# Altium footprint library RCU.PcbLib: 91 footprints (part 2 of 6)
Each footprint in its own frame and in the unit in brackets; x right, y up, seen from the top. Pads: shape width x height; smd on the part's side, far side on the other; paste and mask are expansions set on the pad; w line width, h text height; cw(c..) or ccw(c..) is an arc to the next point about the centre after c.
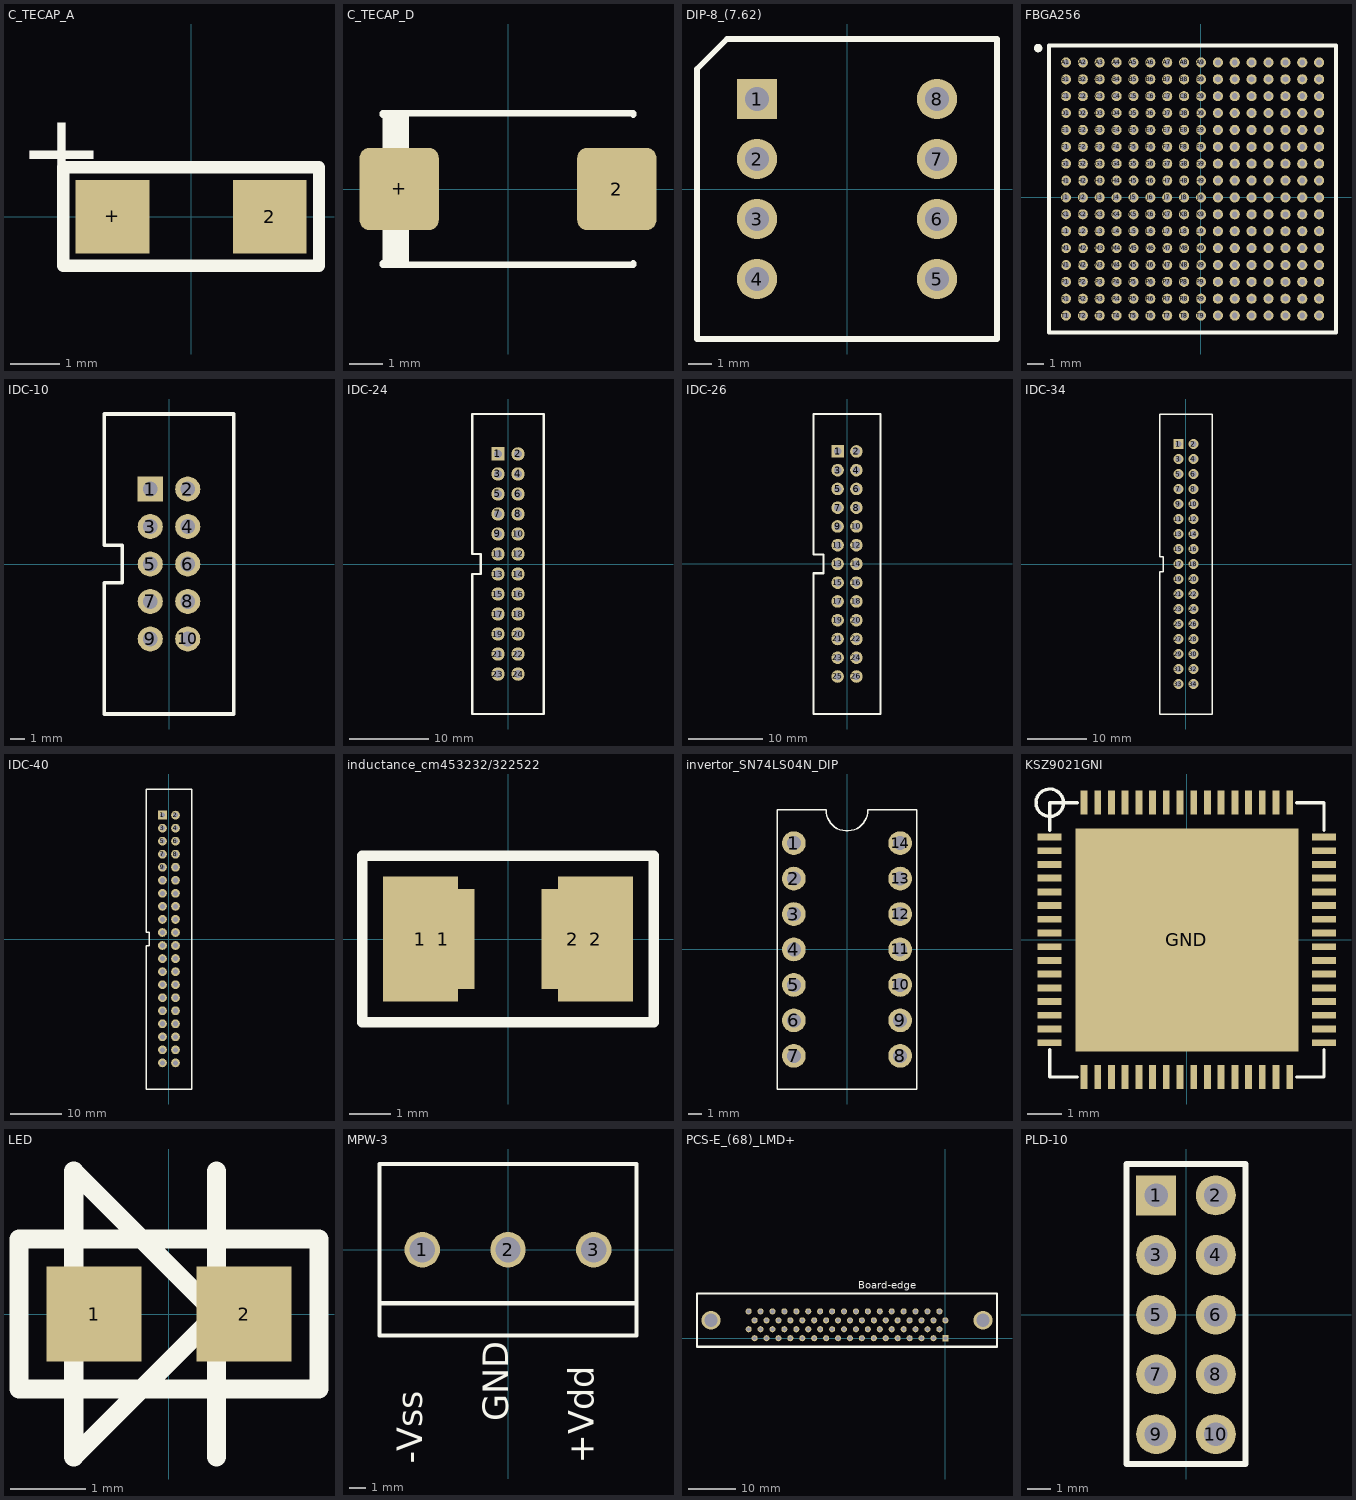
[diagram p1: the footprints below, top view; thin cyan lines are the x and y axes]

## C_TECAP_A [mm]
pads (2):
  rect 1.5x1.5 smd: 2(1.6,0) +(-1.6,0)
Top Overlay:
  lines w0.254: -2.6,-1 -2.6,1 2.6,1 2.6,-1 -2.6,-1
  text "+" at -3.5,0.6 h1.52

## C_TECAP_D [mm] "Capacitor, SM Tantalum; Body 7.3 x 4.3 mm (LxW typ)"
height 3.1
pads (2):
  rrect25% 2.4x2.5 smd: 2(3.3,0) +(-3.3,0)
Top Overlay:
  rectangle: -3.8,-2.3 -3,2.25
  lines w0.2: -3.8,-2.25 -3.8,-2.3 3.8,-2.3 3.8,-2.25 ; -3.8,2.25 -3.8,2.3 3.8,2.3 3.8,2.25
3D body "EL Case D (7343-31).STEP": height 2.81, standoff 0, extent -3.647,-2.15 3.647,2.15

## DIP-8_(7.62) [mm]
pads (8):
  rect 1.7x1.7 hole 1: 1(-3.81,3.81)
  round 1.7 hole 1: 2(-3.81,1.27) 3(-3.81,-1.27) 4(-3.81,-3.81) 5(3.81,-3.81) 6(3.81,-1.27) 7(3.81,1.27) 8(3.81,3.81)
Top Overlay:
  lines w0.254: -6.35,-6.35 -6.35,5.08 -5.08,6.35 6.35,6.35 6.35,-6.35 -6.35,-6.35

## FBGA256 [mm]
pads (256):
  round 0.6 hole 0.35: A1(-8,8) A2(-7,8) A3(-6,8) A4(-5,8) A5(-4,8) A6(-3,8) A7(-2,8) A8(-1,8) A9(0,8) A10(1,8) A11(2,8) A12(3,8) A13(4,8) A14(5,8) A15(6,8) A16(7,8) B1(-8,7) B2(-7,7) B3(-6,7) B4(-5,7) B5(-4,7) B6(-3,7) B7(-2,7) B8(-1,7) B9(0,7) B10(1,7) B11(2,7) B12(3,7) B13(4,7) B14(5,7) B15(6,7) B16(7,7) C1(-8,6) C2(-7,6) C3(-6,6) C4(-5,6) C5(-4,6) C6(-3,6) C7(-2,6) C8(-1,6) C9(0,6) C10(1,6) C11(2,6) C12(3,6) C13(4,6) C14(5,6) C15(6,6) C16(7,6) D1(-8,5) D2(-7,5) D3(-6,5) D4(-5,5) D5(-4,5) D6(-3,5) D7(-2,5) D8(-1,5) D9(0,5) D10(1,5) D11(2,5) D12(3,5) D13(4,5) D14(5,5) D15(6,5) D16(7,5) E1(-8,4) E2(-7,4) E3(-6,4) E4(-5,4) E5(-4,4) E6(-3,4) E7(-2,4) E8(-1,4) E9(0,4) E10(1,4) E11(2,4) E12(3,4) E13(4,4) E14(5,4) E15(6,4) E16(7,4) F1(-8,3) F2(-7,3) F3(-6,3) F4(-5,3) F5(-4,3) F6(-3,3) F7(-2,3) F8(-1,3) F9(0,3) F10(1,3) F11(2,3) F12(3,3) F13(4,3) F14(5,3) F15(6,3) F16(7,3) G1(-8,2) G2(-7,2) G3(-6,2) G4(-5,2) G5(-4,2) G6(-3,2) G7(-2,2) G8(-1,2) G9(0,2) G10(1,2) G11(2,2) G12(3,2) G13(4,2) G14(5,2) G15(6,2) G16(7,2) H1(-8,1) H2(-7,1) H3(-6,1) H4(-5,1) H5(-4,1) H6(-3,1) H7(-2,1) H8(-1,1) H9(0,1) H10(1,1) H11(2,1) H12(3,1) H13(4,1) H14(5,1) H15(6,1) H16(7,1) J1(-8,0) J2(-7,0) J3(-6,0) J4(-5,0) J5(-4,0) J6(-3,0) J7(-2,0) J8(-1,0) J9(0,0) J10(1,0) J11(2,0) J12(3,0) J13(4,0) J14(5,0) J15(6,0) J16(7,0) K1(-8,-1) K2(-7,-1) K3(-6,-1) K4(-5,-1) K5(-4,-1) K6(-3,-1) K7(-2,-1) K8(-1,-1) K9(0,-1) K10(1,-1) K11(2,-1) K12(3,-1) K13(4,-1) K14(5,-1) K15(6,-1) K16(7,-1) L1(-8,-2) L2(-7,-2) L3(-6,-2) L4(-5,-2) L5(-4,-2) L6(-3,-2) L7(-2,-2) L8(-1,-2) L9(0,-2) L10(1,-2) L11(2,-2) L12(3,-2) L13(4,-2) L14(5,-2) L15(6,-2) L16(7,-2) M1(-8,-3) M2(-7,-3) M3(-6,-3) M4(-5,-3) M5(-4,-3) M6(-3,-3) M7(-2,-3) M8(-1,-3) M9(0,-3) M10(1,-3) M11(2,-3) M12(3,-3) M13(4,-3) M14(5,-3) M15(6,-3) M16(7,-3) N1(-8,-4) N2(-7,-4) N3(-6,-4) N4(-5,-4) N5(-4,-4) N6(-3,-4) N7(-2,-4) N8(-1,-4) N9(0,-4) N10(1,-4) N11(2,-4) N12(3,-4) N13(4,-4) N14(5,-4) N15(6,-4) N16(7,-4) P1(-8,-5) P2(-7,-5) P3(-6,-5) P4(-5,-5) P5(-4,-5) P6(-3,-5) P7(-2,-5) P8(-1,-5) P9(0,-5) P10(1,-5) P11(2,-5) P12(3,-5) P13(4,-5) P14(5,-5) P15(6,-5) P16(7,-5) R1(-8,-6) R2(-7,-6) R3(-6,-6) R4(-5,-6) R5(-4,-6) R6(-3,-6) R7(-2,-6) R8(-1,-6) R9(0,-6) R10(1,-6) R11(2,-6) R12(3,-6) R13(4,-6) R14(5,-6) R15(6,-6) R16(7,-6) T1(-8,-7) T2(-7,-7) T3(-6,-7) T4(-5,-7) T5(-4,-7) T6(-3,-7) T7(-2,-7) T8(-1,-7) T9(0,-7) T10(1,-7) T11(2,-7) T12(3,-7) T13(4,-7) T14(5,-7) T15(6,-7) T16(7,-7)
Top Overlay:
  circle w0.25: c-9.65,8.85 r0.125
  lines w0.254: -9,-8 8,-8 8,9 -9,9 -9,-8
3D body: height 1.55, standoff 0, extent -9,-8 8,9

## IDC-10 [mm]
pads (10):
  rect 1.7x1.7 hole 1: 1(-1.27,5.08)
  round 1.7 hole 1: 2(1.27,5.08) 3(-1.27,2.54) 4(1.27,2.54) 5(-1.27,0) 6(1.27,0) 7(-1.27,-2.54) 8(1.27,-2.54) 9(-1.27,-5.08) 10(1.27,-5.08)
Top Overlay:
  lines w0.254: -4.4,-10.175 -4.4,-1.27 -3.175,-1.27 -3.175,1.27 -4.4,1.27 -4.4,10.175 4.4,10.175 4.4,-10.175 -4.4,-10.175

## IDC-24 [mm]
pads (24):
  rect 1.7x1.7 hole 1: 1(-1.27,13.97)
  round 1.7 hole 1: 2(1.27,13.97) 3(-1.27,11.43) 4(1.27,11.43) 5(-1.27,8.89) 6(1.27,8.89) 7(-1.27,6.35) 8(1.27,6.35) 9(-1.27,3.81) 10(1.27,3.81) 11(-1.27,1.27) 12(1.27,1.27) 13(-1.27,-1.27) 14(1.27,-1.27) 15(-1.27,-3.81) 16(1.27,-3.81) 17(-1.27,-6.35) 18(1.27,-6.35) 19(-1.27,-8.89) 20(1.27,-8.89) 21(-1.27,-11.43) 22(1.27,-11.43) 23(-1.27,-13.97) 24(1.27,-13.97)
Top Overlay:
  lines w0.3: -4.55,-19.04 -4.55,-1.27 -3.48,-1.27 -3.48,1.27 -4.55,1.27 -4.55,19.04 4.55,19.04 4.55,-19.04 -4.55,-19.04

## IDC-26 [mm]
pads (26):
  rect 1.7x1.7 hole 1: 1(-1.27,15.24)
  round 1.7 hole 1: 2(1.27,15.24) 3(-1.27,12.7) 4(1.27,12.7) 5(-1.27,10.16) 6(1.27,10.16) 7(-1.27,7.62) 8(1.27,7.62) 9(-1.27,5.08) 10(1.27,5.08) 11(-1.27,2.54) 12(1.27,2.54) 13(-1.27,0) 14(1.27,0) 15(-1.27,-2.54) 16(1.27,-2.54) 17(-1.27,-5.08) 18(1.27,-5.08) 19(-1.27,-7.62) 20(1.27,-7.62) 21(-1.27,-10.16) 22(1.27,-10.16) 23(-1.27,-12.7) 24(1.27,-12.7) 25(-1.27,-15.24) 26(1.27,-15.24)
Top Overlay:
  lines w0.3: -4.55,-20.32 4.55,-20.32 4.55,20.31 -4.55,20.31 -4.55,1.27 -3.175,1.27 -3.175,-1.27 -4.55,-1.27 -4.55,-20.32

## IDC-34 [mm]
pads (34):
  rect 1.7x1.7 hole 1: 1(-1.27,20.32)
  round 1.7 hole 1: 2(1.27,20.32) 3(-1.27,17.78) 4(1.27,17.78) 5(-1.27,15.24) 6(1.27,15.24) 7(-1.27,12.7) 8(1.27,12.7) 9(-1.27,10.16) 10(1.27,10.16) 11(-1.27,7.62) 12(1.27,7.62) 13(-1.27,5.08) 14(1.27,5.08) 15(-1.27,2.54) 16(1.27,2.54) 17(-1.27,0) 18(1.27,0) 19(-1.27,-2.54) 20(1.27,-2.54) 21(-1.27,-5.08) 22(1.27,-5.08) 23(-1.27,-7.62) 24(1.27,-7.62) 25(-1.27,-10.16) 26(1.27,-10.16) 27(-1.27,-12.7) 28(1.27,-12.7) 29(-1.27,-15.24) 30(1.27,-15.24) 31(-1.27,-17.78) 32(1.27,-17.78) 33(-1.27,-20.32) 34(1.27,-20.32)
Top Overlay:
  lines w0.254: 4.445,-25.4 -4.445,-25.4 -4.445,-1.27 -3.81,-1.27 -3.81,1.27 -4.47,1.27 -4.47,15.24 -4.47,25.4 4.48,25.4 4.48,-25.4

## IDC-40 [mm]
pads (40):
  rect 1.7x1.7 hole 1: 1(-1.27,24.13)
  round 1.7 hole 1: 2(1.27,24.13) 3(-1.27,21.59) 4(1.27,21.59) 5(-1.27,19.05) 6(1.27,19.05) 7(-1.27,16.51) 8(1.27,16.51) 9(-1.27,13.97) 10(1.27,13.97) 11(-1.27,11.43) 12(1.27,11.43) 13(-1.27,8.89) 14(1.27,8.89) 15(-1.27,6.35) 16(1.27,6.35) 17(-1.27,3.81) 18(1.27,3.81) 19(-1.27,1.27) 20(1.27,1.27) 21(-1.27,-1.27) 22(1.27,-1.27) 23(-1.27,-3.81) 24(1.27,-3.81) 25(-1.27,-6.35) 26(1.27,-6.35) 27(-1.27,-8.89) 28(1.27,-8.89) 29(-1.27,-11.43) 30(1.27,-11.43) 31(-1.27,-13.97) 32(1.27,-13.97) 33(-1.27,-16.51) 34(1.27,-16.51) 35(-1.27,-19.05) 36(1.27,-19.05) 37(-1.27,-21.59) 38(1.27,-21.59) 39(-1.27,-24.13) 40(1.27,-24.13)
Top Overlay:
  lines w0.254: -4.47,1.27 -4.47,19.05 -4.47,29.21 4.48,29.21 4.48,-29.21 -4.445,-29.21 -4.445,-1.27 -3.81,-1.27 -3.81,1.27 -4.47,1.27

## inductance_cm453232/322522 [mm]
pads (4):
  rect 1.8x3 smd: 1(-2.1,0) 2(2.1,0)
  rect 1.5x2.4 smd: 1(-1.55,0) 2(1.55,0)
Top Overlay:
  lines w0.254: -3.5,-2 -3.5,2 3.5,2 3.5,-2 -3.5,-2

## invertor_SN74LS04N_DIP [mm]
pads (14):
  round 1.7 hole 1: 1(-3.81,7.62) 2(-3.81,5.08) 3(-3.81,2.54) 4(-3.81,0) 5(-3.81,-2.54) 6(-3.81,-5.08) 7(-3.81,-7.62) 8(3.81,-7.62) 9(3.81,-5.08) 10(3.81,-2.54) 11(3.81,0) 12(3.81,2.54) 13(3.81,5.08) 14(3.81,7.62)
Top Overlay:
  lines w0.1: -5,-10 5,-10 5,10 1.5,10 cw(c0,10) -1.5,10 -5,10 -5,-10

## KSZ9021GNI [mm]
pads (65):
  rect 0.7x0.2 smd: 1(-4,3) 2(-4,2.6) 3(-4,2.2) 4(-4,1.8) 5(-4,1.4) 6(-4,1) 7(-4,0.6) 8(-4,0.2) 9(-4,-0.2) 10(-4,-0.6) 11(-4,-1) 12(-4,-1.4) 13(-4,-1.8) 14(-4,-2.2) 15(-4,-2.6) 16(-4,-3) 33(4,-3) 34(4,-2.6) 35(4,-2.2) 36(4,-1.8) 37(4,-1.4) 38(4,-1) 39(4,-0.6) 40(4,-0.2) 41(4,0.2) 42(4,0.6) 43(4,1) 44(4,1.4) 45(4,1.8) 46(4,2.2) 47(4,2.6) 48(4,3)
  rect 0.2x0.7 smd: 17(-3,-4) 18(-2.6,-4) 19(-2.2,-4) 20(-1.8,-4) 21(-1.4,-4) 22(-1,-4) 23(-0.6,-4) 24(-0.2,-4) 25(0.2,-4) 26(0.6,-4) 27(1,-4) 28(1.4,-4) 29(1.8,-4) 30(2.2,-4) 31(2.6,-4) 32(3,-4) 49(3,4) 50(2.6,4) 51(2.2,4) 52(1.8,4) 53(1.4,4) 54(1,4) 55(0.6,4) 56(0.2,4) 57(-0.2,4) 58(-0.6,4) 59(-1,4) 60(-1.4,4) 61(-1.8,4) 62(-2.2,4) 63(-2.6,4) 64(-3,4)
  rect 6.5x6.5 smd: GND(0,0)
Top Overlay:
  circle w0.1: c-4,4 r0.4
  lines w0.1: -4,-3.2 -4,-4 -3.2,-4 ; -4,3.2 -4,4 -3.2,4 ; 3.2,-4 4,-4 4,-3.2 ; 3.2,4 4,4 4,3.2

## LED [mm]
pads (2):
  rect 1.27x1.27 smd: 1(-1,0) 2(1,0)
Top Overlay:
  lines w0.254: 0.635,-1.905 0.635,1.905 ; -2,-1 -2,1 2,1 2,-1 -2,-1 ; -1.27,-1.905 0.635,0 -1.27,1.905 -1.27,-1.905

## MPW-3 [mm]
pads (3):
  round 2.1 hole 1.5: 1(-5.08,0) 2(0,0) 3(5.08,0)
Top Overlay:
  lines w0.254: -7.62,-3.175 7.62,-3.175 ; -7.62,-5.08 7.62,-5.08 7.62,5.08 -7.62,5.08 -7.62,-5.08
  text "+Vdd" at 5.08,-12.7 h1.52
  text "GND" at 0,-10.16 h1.52
  text "-Vss" at -5.08,-12.7 h1.52

## PCS-E_(68)_LMD+ [mm]
pads (68):
  rect 1.3x1.3 hole 0.8: 1(0,0)
  round 1.3 hole 0.8: 2(-1.27,1.905) 3(-2.54,0) 4(-3.81,1.905) 5(-5.08,0) 6(-6.35,1.905) 7(-7.62,0) 8(-8.89,1.905) 9(-10.16,0) 10(-11.43,1.905) 11(-12.7,0) 12(-13.97,1.905) 13(-15.24,0) 14(-16.51,1.905) 15(-17.78,0) 16(-19.05,1.905) 17(-20.32,0) 18(-21.59,1.905) 19(-22.86,0) 20(-24.13,1.905) 21(-25.4,0) 22(-26.67,1.905) 23(-27.94,0) 24(-29.21,1.905) 25(-30.48,0) 26(-31.75,1.905) 27(-33.02,0) 28(-34.29,1.905) 29(-35.56,0) 30(-36.83,1.905) 31(-38.1,0) 32(-39.37,1.905) 33(-40.64,0) 34(-41.91,1.905) 35(0,3.81) 36(-1.27,5.715) 37(-2.54,3.81) 38(-3.81,5.715) 39(-5.08,3.81) 40(-6.35,5.715) 41(-7.62,3.81) 42(-8.89,5.715) 43(-10.16,3.81) 44(-11.43,5.715) 45(-12.7,3.81) 46(-13.97,5.715) 47(-15.24,3.81) 48(-16.51,5.715) 49(-17.78,3.81) 50(-19.05,5.715) 51(-20.32,3.81) 52(-21.59,5.715) 53(-22.86,3.81) 54(-24.13,5.715) 55(-25.4,3.81) 56(-26.67,5.715) 57(-27.94,3.81) 58(-29.21,5.715) 59(-30.48,3.81) 60(-31.75,5.715) 61(-33.02,3.81) 62(-34.29,5.715) 63(-35.56,3.81) 64(-36.83,5.715) 65(-38.1,3.81) 66(-39.37,5.715) 67(-40.64,3.81) 68(-41.91,5.715)
via 7.995,3.81 diameter 4 hole 2.8
via -49.905,3.81 diameter 4 hole 2.8
Top Overlay:
  lines w0.5: -52.905,-1.785 -52.905,9.515 10.995,9.515 10.995,-1.785 -52.905,-1.785
  text "Board-edge" at -18.545,10.574 h1.52

## PLD-10 [mm]
pads (10):
  rect 1.7x1.7 hole 1: 1(-1.27,5.08)
  round 1.7 hole 1: 2(1.27,5.08) 3(-1.27,2.54) 4(1.27,2.54) 5(-1.27,0) 6(1.27,0) 7(-1.27,-2.54) 8(1.27,-2.54) 9(-1.27,-5.08) 10(1.27,-5.08)
Top Overlay:
  lines w0.254: -2.54,-6.35 2.54,-6.35 2.54,6.41 -2.54,6.41 -2.54,-6.35